# EAGLE library part 1735265-8 (library 1735265-8)
Body Features: Primary Product Color Natural | Configuration Features: Compatible With Wire & Cable Type FFC | Number of Positions 8 | Number of Rows 1 | PCB Mount Orientation Right Angle | Compatible With Wire & Cable Type FPC | Contact Features: Contact Mating Location Bottom | Contact Mating Area Plating Material Thickness 2 MICIN | Contact Shape & Form Standard Flat | Contact Mating Area Plating Material Gold | Contact Type Socket | Contact Base Material Phosphor Bronze | PCB Contact Termination Area Pl Source: Datasheet <https://www.te.com/commerce/DocumentDelivery/DDEController?Action=srchrtrv&DocNm=1-1773959-7-FPC-Connectors-CN&DocType=Data Sheet&DocLang=Chinese (Simplified)&PartCntxt=1735265-8&DocFormat=pdf>
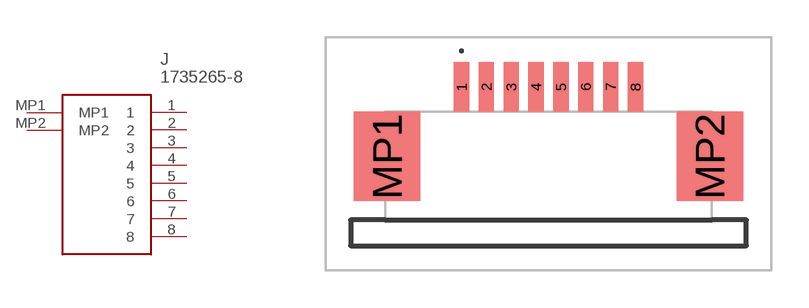
[diagram p0: symbol with the pads of 17352658; footprint 17352658]

Designator prefix J

## 1735265-8 (Description: Body Features: Primary Product Color Natural | Configuration Features: Compatible With Wire & Cable Type FFC | Number of Positions 8 | Number of Rows 1 | PCB Mount Orientation Right Angle | Compatible With Wire & Cable Type FPC | Contact Features: Contact Mating Location Bottom | Contact Mating Area Plating Material Thickness 2 MICIN | Contact Shape & Form Standard Flat | Contact Mating Area Plating Material Gold | Contact Type Socket | Contact Base Material Phosphor Bronze | PCB Contact Termination Area Pl; Height: 2.74mm; Manufacturer_Name: TE Connectivity; Manufacturer_Part_Number: 1735265-8; Mouser_Part_Number: 571-1735265-8; Mouser_Price-Stock: https://www.mouser.co.uk/ProductDetail/TE-Connectivity-AMP/1735265-8?qs=vkMqrgFpRajjm%252BbPDw7SSA%3D%3D)  [17352658]
1  1
2  2
3  3
4  4
5  5
6  6
7  7
8  8
MP1  MP1
MP2  MP2

## Footprint 17352658 (pad centres in mm)
1735265-8-2
smd 0.61 x 2: 1 -3.5,3.2; 2 -2.5,3.2; 3 -1.5,3.2; 4 -0.5,3.2; 5 0.5,3.2; 6 1.5,3.2; 7 2.5,3.2; 8 3.5,3.2
smd 2.68 x 3.6: MP1 -6.49,0.4; MP2 6.49,0.4